# Altium footprint library fiducial.PcbLib: 3 footprints
Each footprint in its own frame and in the unit in brackets; x right, y up, seen from the top. Pads: shape width x height; smd on the part's side, far side on the other; paste and mask are expansions set on the pad; w line width, h text height; cw(c..) or ccw(c..) is an arc to the next point about the centre after c.
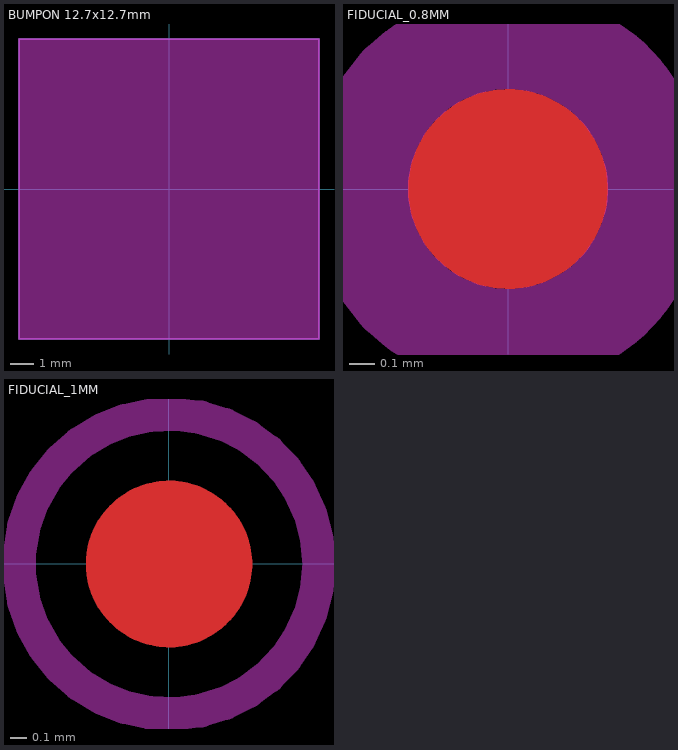
[diagram p0: the footprints below, top view; thin cyan lines are the x and y axes]

## BUMPON 12.7x12.7mm [mm]
Top Layer keep-out:
  rectangle: -6.5,-6.5 6.5,6.5
Top Solder:
  rectangle: -6.5,-6.5 6.5,6.5
Mechanical 15:
  lines w0.1: -6.5,-6.5 6.5,-6.5 6.5,6.5 -6.5,6.5 -6.5,-6.5

## FIDUCIAL_0.8MM [mm] "0.8mm fiducial mark"
Top Layer:
  circle w0.4: c0,0 r0.2
Top Layer keep-out:
  circle w0.4: c0,0 r0.6
Top Solder:
  circle w0.8: c0,0 r0.4

## FIDUCIAL_1MM [mm] "1mm fiducial mark"
Top Layer:
  circle w0.5: c0,0 r0.25
Top Layer keep-out:
  circle w0.2: c0,0 r0.9
Top Solder:
  circle w1: c0,0 r0.5